# EAGLE library part MAX8819 (library cTechnologies_integratedCircuits)
PMIC with Integrated Chargers and Smart Power Selector in a 4mm x 4mm TQFN The MAX8819_ is a complete power solution for MP3 players and other handheld applications. The IC includes a battery charger, step-down converters, and WLED power. It features an input current-limit switch to power the IC from an AC-to-DC adapter or USB port, a 1-cell lithium ion (Li+) or lithium polymer (Li-Poly) charg- er, three step-down converters, and a step-up converter with serial step dimming for powering two to six white LEDs. All power switches for charging and switching the system load between battery and external power are included on-chip. No external MOSFETs are required. The MAX8819C offers a sequenced power-up/power- down of OUT1, OUT2, and then OUT3.
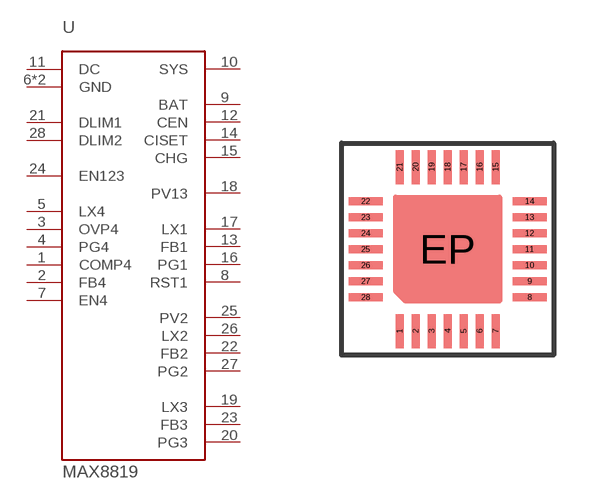
[diagram p9: symbol with the pads of TQFN28-4X4; footprint TQFN28-4X4]

Designator prefix U

## MAX8819  [TQFN28-4X4]
1  COMP4
2  FB4
3  OVP4
4  PG4
5  LX4
6  GND
7  EN4
8  RST1
9  BAT
10  SYS
11  DC
12  CEN
13  FB1
14  CISET
15  CHG
16  PG1
17  LX1
18  PV13
19  LX3
20  PG3
21  DLIM1
22  FB2
23  FB3
24  EN123
25  PV2
26  LX2
27  PG2
28  DLIM2
EP  GND

## Footprint TQFN28-4X4 (pad centres in mm)
smd 0.2 x 0.85: 1 -1.2,-2.05; 2 -0.8,-2.05; 3 -0.4,-2.05; 4 0,-2.05; 5 0.4,-2.05; 6 0.8,-2.05; 7 1.2,-2.05; 15 1.2,2.05; 16 0.8,2.05; 17 0.4,2.05; 18 0,2.05; 19 -0.4,2.05; 20 -0.8,2.05; 21 -1.2,2.05
smd 0.85 x 0.2: 8 2.05,-1.2; 9 2.05,-0.8; 10 2.05,-0.4; 11 2.05,0; 12 2.05,0.4; 13 2.05,0.8; 14 2.05,1.2; 22 -2.05,1.2; 23 -2.05,0.8; 24 -2.05,0.4; 25 -2.05,0; 26 -2.05,-0.4; 27 -2.05,-0.8; 28 -2.05,-1.2
smd 2.184 x 1.067: EP 0,0